# Altium integrated library PTS815SJM250SMTRLFS.IntLib: 1 symbol
Pins are listed as number, name and electrical type; pins without a type are passive.

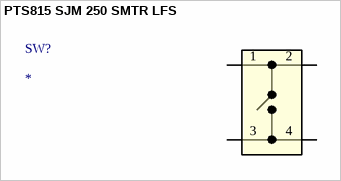
[diagram p0: symbol PTS815 SJM 250 SMTR LFS]

## PTS815 SJM 250 SMTR LFS
designator SW?
No Description Available; Mfr_Name: C&K Components; RefDes: RefDes; Type: Type
footprint SW4_PTS815 SJM 250 SMTR LFS_CNK
footprint SW4_PTS815 SJM 250 SMTR LFS_CNK - No mark
pins: 1, 2, 3, 4